# EAGLE library part LM317LD13TR (library ST Microelctronics_By_element14_Batch_1)
Micropower 200 mA Low Dropout Tracking Regulator/Line Driver
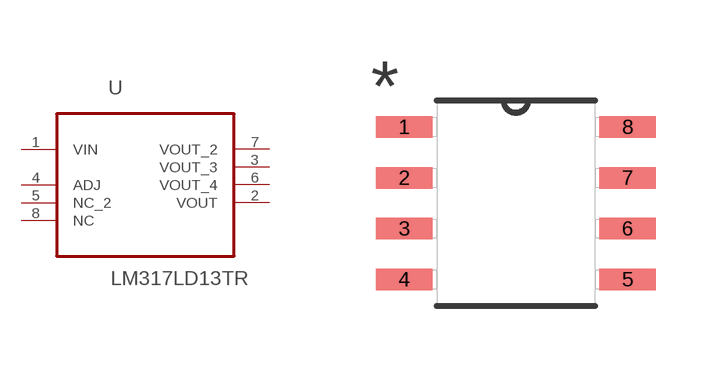
[diagram p111: symbol with the pads of SOIC127P600X175-8N; footprint SOIC127P600X175-8N]

Designator prefix U

## LM317LD13TR (MPN: LM317LD13TR; OC_FARNELL: 1261205; OC_NEWARK: 89K0679; PACKAGE: SOIC-8; SUPPLIER: STMICROELECTRONICS)  [SOIC127P600X175-8N]
1  VIN  in
2  VOUT  out
3  VOUT_3  out
4  ADJ  in
5  NC_2  nc
6  VOUT_4  out
7  VOUT_2  out
8  NC  nc

## Footprint SOIC127P600X175-8N (pad centres in mm)
smd 1.422 x 0.533: 1 -2.794,1.905; 2 -2.794,0.635; 3 -2.794,-0.635; 4 -2.794,-1.905; 5 2.794,-1.905; 6 2.794,-0.635; 7 2.794,0.635; 8 2.794,1.905